# EAGLE library part MICROMOD (library Labops_Lib_AH)
MicroMod Connector Description: A card edge connector and mating PCB connector to allow various MicroMod Processor Boards to be coupled with various carrier boards of different capabilities. Based on the M.2 standard.
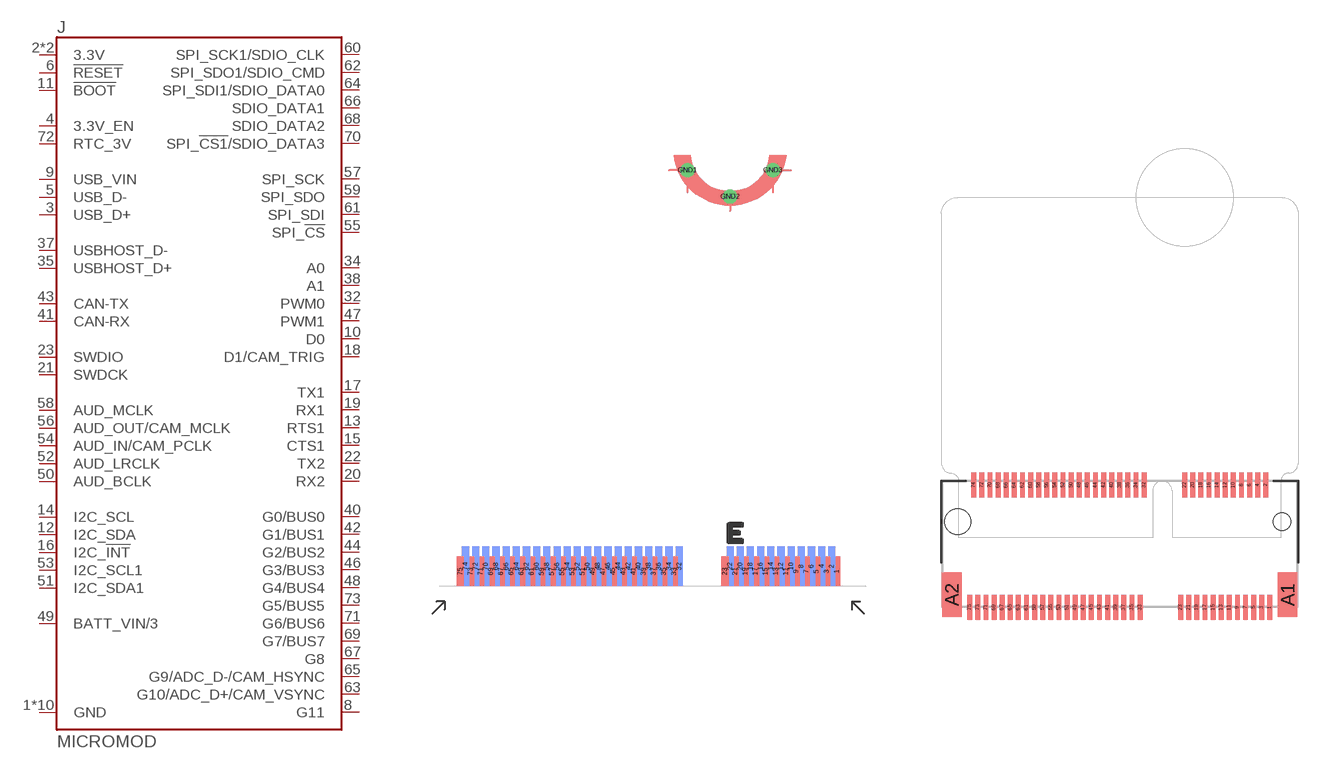
[diagram p53: symbol with the pads of M.2-CARD-E-22; footprints M.2-CARD-E-22, M.2-CONNECTOR-E]

Designator prefix J

## MICROMOD-2222  [M.2-CARD-E-22]
1  GND
2  3.3V
3  USB_D+
4  3.3V_EN
5  USB_D-
6  !RESET!
7  GND
8  G11
9  USB_VIN
10  D0
11  !BOOT!
12  I2C_SDA
13  RTS1
14  I2C_SCL
15  CTS1
16  I2C_!INT!
17  TX1
18  D1/CAM_TRIG
19  RX1
20  RX2
21  SWDCK
22  TX2
23  SWDIO
32  PWM0
33  GND
34  A0
35  USBHOST_D+
36  GND
37  USBHOST_D-
38  A1
39  GND
40  G0/BUS0
41  CAN-RX
42  G1/BUS1
43  CAN-TX
44  G2/BUS2
45  GND
46  G3/BUS3
47  PWM1
48  G4/BUS4
49  BATT_VIN/3
50  AUD_BCLK
51  I2C_SDA1
52  AUD_LRCLK
53  I2C_SCL1
54  AUD_IN/CAM_PCLK
55  SPI_!CS!
56  AUD_OUT/CAM_MCLK
57  SPI_SCK
58  AUD_MCLK
59  SPI_SDO
60  SPI_SCK1/SDIO_CLK
61  SPI_SDI
62  SPI_SDO1/SDIO_CMD
63  G10/ADC_D+/CAM_VSYNC
64  SPI_SDI1/SDIO_DATA0
65  G9/ADC_D-/CAM_HSYNC
66  SDIO_DATA1
67  G8
68  SDIO_DATA2
69  G7/BUS7
70  SPI_!CS1!/SDIO_DATA3
71  G6/BUS6
72  RTC_3V
73  G5/BUS5
74  3.3V
75  GND
GND1  GND
GND2  GND
GND3  GND

## MICROMOD-2222-C (PROD_ID: CONN-14877)  [M.2-CONNECTOR-E]
1  GND
2  3.3V
3  USB_D+
4  3.3V_EN
5  USB_D-
6  !RESET!
7  GND
8  G11
9  USB_VIN
10  D0
11  !BOOT!
12  I2C_SDA
13  RTS1
14  I2C_SCL
15  CTS1
16  I2C_!INT!
17  TX1
18  D1/CAM_TRIG
19  RX1
20  RX2
21  SWDCK
22  TX2
23  SWDIO
32  PWM0
33  GND
34  A0
35  USBHOST_D+
36  GND
37  USBHOST_D-
38  A1
39  GND
40  G0/BUS0
41  CAN-RX
42  G1/BUS1
43  CAN-TX
44  G2/BUS2
45  GND
46  G3/BUS3
47  PWM1
48  G4/BUS4
49  BATT_VIN/3
50  AUD_BCLK
51  I2C_SDA1
52  AUD_LRCLK
53  I2C_SCL1
54  AUD_IN/CAM_PCLK
55  SPI_!CS!
56  AUD_OUT/CAM_MCLK
57  SPI_SCK
58  AUD_MCLK
59  SPI_SDO
60  SPI_SCK1/SDIO_CLK
61  SPI_SDI
62  SPI_SDO1/SDIO_CMD
63  G10/ADC_D+/CAM_VSYNC
64  SPI_SDI1/SDIO_DATA0
65  G9/ADC_D-/CAM_HSYNC
66  SDIO_DATA1
67  G8
68  SDIO_DATA2
69  G7/BUS7
70  SPI_!CS1!/SDIO_DATA3
71  G6/BUS6
72  RTC_3V
73  G5/BUS5
74  3.3V
75  GND

## Footprint M.2-CARD-E-22 (pad centres in mm)
smd 0.35 x 1.45: 1 9.25,1.275; 3 8.75,1.275; 5 8.25,1.275; 7 7.75,1.275; 9 7.25,1.275; 11 6.75,1.275; 13 6.25,1.275; 15 5.75,1.275; 17 5.25,1.275; 19 4.75,1.275; 21 4.25,1.275; 23 3.75,1.275; 33 1.25,1.275; 35 0.75,1.275; 37 0.25,1.275; 39 -0.25,1.275; 41 -0.75,1.275; 43 -1.25,1.275; 45 -1.75,1.275; 47 -2.25,1.275; 49 -2.75,1.275; 51 -3.25,1.275; 53 -3.75,1.275; 55 -4.25,1.275; 57 -4.75,1.275; 59 -5.25,1.275; 61 -5.75,1.275; 63 -6.25,1.275; 65 -6.75,1.275; 67 -7.25,1.275; 69 -7.75,1.275; 71 -8.25,1.275; 73 -8.75,1.275; 75 -9.25,1.275
smd 0.35 x 1.95 bottom: 2 9,1.525; 4 8.5,1.525; 6 8,1.525; 8 7.5,1.525; 10 7,1.525; 12 6.5,1.525; 14 6,1.525; 16 5.5,1.525; 18 5,1.525; 20 4.5,1.525; 22 4,1.525; 32 1.5,1.525; 34 1,1.525; 36 0.5,1.525; 38 0,1.525; 40 -0.5,1.525; 42 -1,1.525; 44 -1.5,1.525; 46 -2,1.525; 48 -2.5,1.525; 50 -3,1.525; 52 -3.5,1.525; 54 -4,1.525; 56 -4.5,1.525; 58 -5,1.525; 60 -5.5,1.525; 62 -6,1.525; 64 -6.5,1.525; 66 -7,1.525; 68 -7.5,1.525; 70 -8,1.525; 72 -8.5,1.525; 74 -9,1.525
drill 0.2: GND1 1.9,21; GND2 4,19.7; GND3 6.1,21

## Footprint M.2-CONNECTOR-E (pad centres in mm)
smd 0.3 x 1.55: 1 9.25,-5.275; 2 9,2.275; 3 8.75,-5.275; 4 8.5,2.275; 5 8.25,-5.275; 6 8,2.275; 7 7.75,-5.275; 8 7.5,2.275; 9 7.25,-5.275; 10 7,2.275; 11 6.75,-5.275; 12 6.5,2.275; 13 6.25,-5.275; 14 6,2.275; 15 5.75,-5.275; 16 5.5,2.275; 17 5.25,-5.275; 18 5,2.275; 19 4.75,-5.275; 20 4.5,2.275; 21 4.25,-5.275; 22 4,2.275; 23 3.75,-5.275; 32 1.5,2.275; 33 1.25,-5.275; 34 1,2.275; 35 0.75,-5.275; 36 0.5,2.275; 37 0.25,-5.275; 38 0,2.275; 39 -0.25,-5.275; 40 -0.5,2.275; 41 -0.75,-5.275; 42 -1,2.275; 43 -1.25,-5.275; 44 -1.5,2.275; 45 -1.75,-5.275; 46 -2,2.275; 47 -2.25,-5.275; 48 -2.5,2.275; 49 -2.75,-5.275; 50 -3,2.275; 51 -3.25,-5.275; 52 -3.5,2.275; 53 -3.75,-5.275; 54 -4,2.275; 55 -4.25,-5.275; 56 -4.5,2.275; 57 -4.75,-5.275; 58 -5,2.275; 59 -5.25,-5.275; 60 -5.5,2.275; 61 -5.75,-5.275; 62 -6,2.275; 63 -6.25,-5.275; 64 -6.5,2.275; 65 -6.75,-5.275; 66 -7,2.275; 67 -7.25,-5.275; 68 -7.5,2.275; 69 -7.75,-5.275; 70 -8,2.275; 71 -8.25,-5.275; 72 -8.5,2.275; 73 -8.75,-5.275; 74 -9,2.275; 75 -9.25,-5.275
smd 1.2 x 2.75: A1 10.35,-4.5; A2 -10.35,-4.5
hole 1.1 at 10,0
hole 1.6 at -10,0